# Altium footprint library PCB_ConnectorCable.PcbLib: 60 footprints (part 2 of 4)
Each footprint in its own frame and in the unit in brackets; x right, y up, seen from the top. Pads: shape width x height; smd on the part's side, far side on the other; paste and mask are expansions set on the pad; w line width, h text height; cw(c..) or ccw(c..) is an arc to the next point about the centre after c.
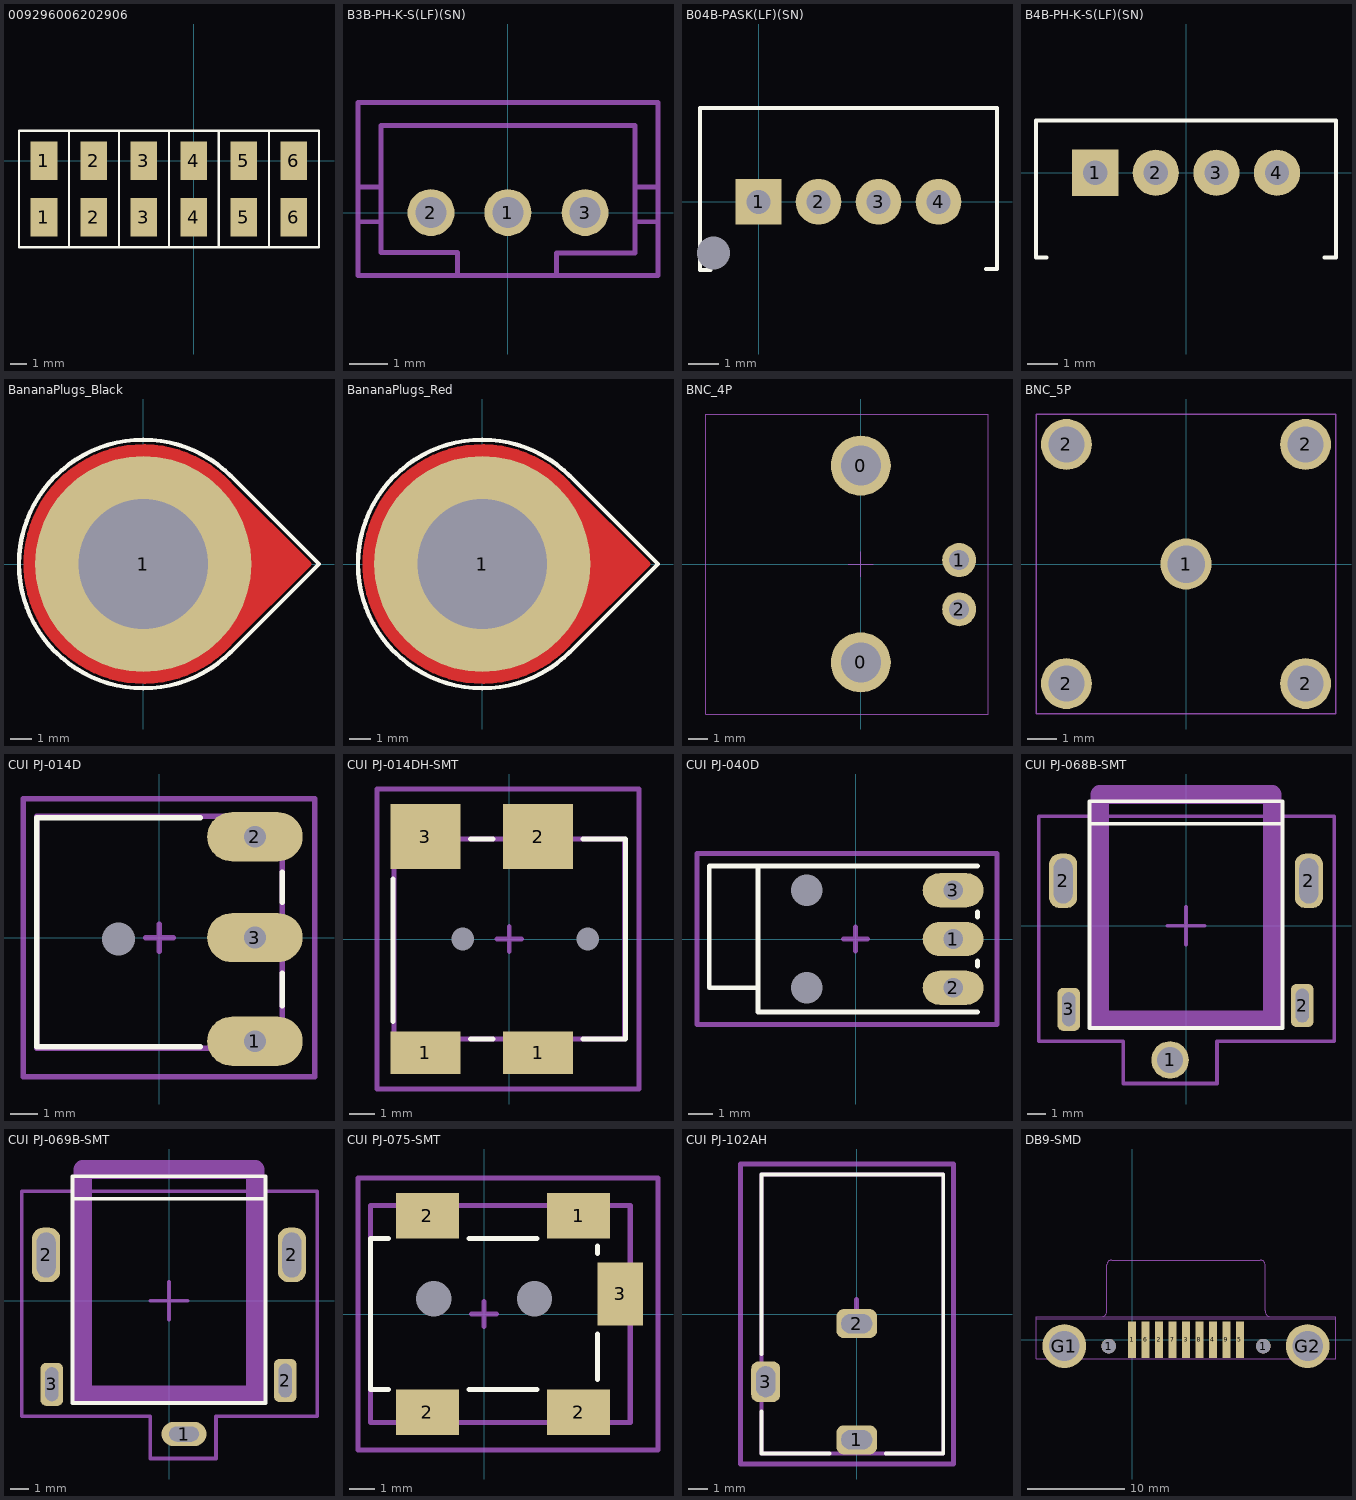
[diagram p1: the footprints below, top view; thin cyan lines are the x and y axes]

## 009296006202906 [mm]
pads (12):
  rect 1.6x2.3 smd: 1(-9,-3.4) 1(-9,0) 2(-6,-3.4) 2(-6,0) 3(-3,-3.4) 3(-3,0) 4(0,-3.4) 4(0,0) 5(3,-3.4) 5(3,0) 6(6,-3.4) 6(6,0)
Top Overlay:
  lines w0.127: 1.497,-5.2 1.497,1.8 ; 4.517,-5.2 4.517,1.724 ; 4.52,-5.2 4.52,1.778 ; -7.5,-5.2 -7.5,1.8 ; -7.5,-5.2 -10.5,-5.2 -10.5,1.8 -7.5,1.8 ; -7.5,-5.2 -7.5,1.8 ; -7.5,-5.2 -4.5,-5.2 ; -7.5,1.8 -4.5,1.8 ; -4.5,-5.2 -4.5,1.8 ; -4.5,-5.2 -4.5,1.8 ; -4.5,-5.2 -1.5,-5.2 ; -4.5,1.8 -1.5,1.8 ; -1.5,-5.2 7.517,-5.2 7.517,1.773 7.517,1.8 -1.5,1.8 ; -1.5,-5.2 -1.5,1.8 ; -1.5,-5.2 -1.5,1.8
3D body "AVX-00-9296-004-202-906_00-9296-004-202-906.SLDPRT": height 2.54, standoff 0.01, extent -4.5,-5.2 7.5,1.8
3D body "AVX-00-9296-004-202-906_00-9296-004-202-906.SLDPRT": height 2.54, standoff 0.01, extent -10.5,-5.2 1.5,1.8

## B3B-PH-K-S(LF)(SN) [mil]
pads (3):
  round 48 / inner round 60 / far side round 48 hole 32: 1(0,0) 2(-78.68,-0.04) 3(78.87,-0.02)
Mechanical 22:
  lines w5: -153.34,-9.38 -129.72,-9.38 ; -153.34,-9.38 -153.34,-64.5 -51.65,-64.5 ; -153.34,-9.38 -153.34,26.05 ; -153.34,26.05 -129.72,26.05 ; -153.34,26.05 -153.34,112.67 153.49,112.67 ; -129.72,-9.38 -129.72,-40.88 -51.65,-40.88 -51.65,-64.5 ; -129.72,-9.38 -129.72,26.05 ; -129.72,26.05 -129.72,89.04 129.89,89 129.89,26.01 ; -51.65,-64.5 50.37,-64.5 ; 50.37,-64.5 50.37,-64.54 153.51,-64.54 153.51,-9.42 ; 50.37,-64.5 50.37,-62.82 49.82,-63.63 49.82,-41.26 129.79,-41.26 129.79,-39.47 129.89,-40.92 129.89,-9.42 ; 129.89,-9.42 153.51,-9.42 ; 129.89,-9.42 129.89,26.01 ; 129.89,26.01 153.51,26.01 ; 153.51,-9.42 153.51,26.01 ; 153.51,26.01 153.51,112.63 ; 153.51,112.63 153.49,111.93 153.49,112.67

## B04B-PASK(LF)(SN) [mm]
pads (5):
  rect 1.524x1.524 hole 0.8: 1(0,0)
  round 1.524 hole 0.8: 2(2,0) 3(4,0) 4(6,0)
  round 0 hole 1.1 unplated: SP(-1.5,-1.7)
Top Overlay:
  lines w0.127: -1.597,-2.269 -1.953,-2.269 -1.953,3.124 7.947,3.124 7.947,-2.235 7.572,-2.235
3D body "B04B-PASK-1.STEP": height 7.71, standoff -2.99, extent -1.997,-2.175 8.003,3.125

## B4B-PH-K-S(LF)(SN) [mm]
pads (4):
  rect 1.524x1.524 hole 0.8: 1(-3,0)
  round 1.524 hole 0.8: 2(-1,0) 3(1,0) 4(3,0)
Top Overlay:
  lines w0.127: -4.597,-2.794 -4.953,-2.794 -4.953,1.727 4.947,1.727 4.947,-2.794 4.572,-2.794
3D body "B4B-PH-K-S.STEP": height 6.01, standoff -3.39, extent -4.925,-2.798 4.975,1.702

## BananaPlugs_Black [mil]
pads (1):
  round 400 hole 240: 1(0,0)
Top Layer:
  region: 158.64,-146.59 148.87,-157.16 126.7,-175.53 102.29,-190.79 76.06,-202.68 48.5,-210.98 20.07,-215.55 -8.71,-216.3 -37.33,-213.24 -65.3,-206.4 -92.11,-195.9 -117.29,-181.95 -140.4,-164.78 -161.02,-144.69 -178.8,-122.04 -193.41,-97.23 -204.61,-70.71 -212.18,-42.93 -216,-14.4 -216,14.4 -212.18,42.93 -204.61,70.71 -193.41,97.23 -178.8,122.04 -161.02,144.69 -140.4,164.78 -117.29,181.95 -92.11,195.9 -65.3,206.4 -37.33,213.24 -8.71,216.3 20.07,215.55 48.5,210.98 76.06,202.68 102.29,190.79 126.7,175.53 148.87,157.16 158.64,146.59 159,146 305,0
  lines w12: 158.64,-146.59 cw(c0,0) 158.64,146.59 ; 159,-146 305,0 159,146
Bottom Layer:
  region: 158.64,-146.59 148.87,-157.16 126.7,-175.53 102.29,-190.79 76.07,-202.68 48.5,-210.98 20.07,-215.55 -8.71,-216.3 -37.33,-213.24 -65.3,-206.4 -92.11,-195.9 -117.29,-181.95 -140.4,-164.78 -161.02,-144.69 -178.8,-122.04 -193.41,-97.23 -204.61,-70.71 -212.18,-42.93 -216,-14.4 -216,14.4 -212.18,42.93 -204.61,70.71 -193.41,97.23 -178.8,122.04 -161.02,144.69 -140.4,164.78 -117.29,181.95 -92.11,195.9 -65.3,206.4 -37.33,213.24 -8.71,216.3 20.07,215.55 48.5,210.98 76.07,202.68 102.29,190.79 126.7,175.53 148.87,157.16 158.64,146.59 159,146 305,0
Top Overlay:
  lines w8: 162.63,-162.63 cw(c0,0) 162.63,162.63 325.27,0 162.63,-162.63
Bottom Overlay:
  lines w8: 162.63,-162.63 cw(c0,0) 162.63,162.63 325.27,0 162.63,-162.63
Top Solder:
  region: 158.64,-146.59 148.87,-157.16 126.7,-175.53 102.29,-190.79 76.07,-202.68 48.5,-210.98 20.07,-215.55 -8.71,-216.3 -37.33,-213.24 -65.3,-206.4 -92.11,-195.9 -117.29,-181.95 -140.4,-164.78 -161.02,-144.69 -178.8,-122.04 -193.41,-97.23 -204.61,-70.71 -212.18,-42.93 -216,-14.4 -216,14.4 -212.18,42.93 -204.61,70.71 -193.41,97.23 -178.8,122.04 -161.02,144.69 -140.4,164.78 -117.29,181.95 -92.11,195.9 -65.3,206.4 -37.33,213.24 -8.71,216.3 20.07,215.55 48.5,210.98 76.07,202.68 102.29,190.79 126.7,175.53 148.87,157.16 158.64,146.59 159,146 305,0
Bottom Solder:
  region: 158.64,-146.59 148.87,-157.16 126.7,-175.53 102.29,-190.79 76.07,-202.68 48.5,-210.98 20.07,-215.55 -8.71,-216.3 -37.33,-213.24 -65.3,-206.4 -92.11,-195.9 -117.29,-181.95 -140.4,-164.78 -161.02,-144.69 -178.8,-122.04 -193.41,-97.23 -204.61,-70.71 -212.18,-42.93 -216,-14.4 -216,14.4 -212.18,42.93 -204.61,70.71 -193.41,97.23 -178.8,122.04 -161.02,144.69 -140.4,164.78 -117.29,181.95 -92.11,195.9 -65.3,206.4 -37.33,213.24 -8.71,216.3 20.07,215.55 48.5,210.98 76.07,202.68 102.29,190.79 126.7,175.53 148.87,157.16 158.64,146.59 159,146 305,0
3D body "User Library-ST-351B V1 - BLACK.STEP": height 326.77, standoff -303.18, extent -222.44,-222.19 456.69,222.19

## BananaPlugs_Red [mil]
pads (1):
  round 400 hole 240: 1(0,0)
Top Layer:
  region: 158.64,-146.59 148.87,-157.16 126.7,-175.53 102.29,-190.79 76.06,-202.68 48.5,-210.98 20.07,-215.55 -8.71,-216.3 -37.33,-213.24 -65.3,-206.4 -92.11,-195.9 -117.29,-181.95 -140.4,-164.78 -161.02,-144.69 -178.8,-122.04 -193.41,-97.23 -204.61,-70.71 -212.18,-42.93 -216,-14.4 -216,14.4 -212.18,42.93 -204.61,70.71 -193.41,97.23 -178.8,122.04 -161.02,144.69 -140.4,164.78 -117.29,181.95 -92.11,195.9 -65.3,206.4 -37.33,213.24 -8.71,216.3 20.07,215.55 48.5,210.98 76.06,202.68 102.29,190.79 126.7,175.53 148.87,157.16 158.64,146.59 159,146 305,0
  lines w12: 158.64,-146.59 cw(c0,0) 158.64,146.59 ; 159,-146 305,0 159,146
Bottom Layer:
  region: 158.64,-146.59 148.87,-157.16 126.7,-175.53 102.29,-190.79 76.07,-202.68 48.5,-210.98 20.07,-215.55 -8.71,-216.3 -37.33,-213.24 -65.3,-206.4 -92.11,-195.9 -117.29,-181.95 -140.4,-164.78 -161.02,-144.69 -178.8,-122.04 -193.41,-97.23 -204.61,-70.71 -212.18,-42.93 -216,-14.4 -216,14.4 -212.18,42.93 -204.61,70.71 -193.41,97.23 -178.8,122.04 -161.02,144.69 -140.4,164.78 -117.29,181.95 -92.11,195.9 -65.3,206.4 -37.33,213.24 -8.71,216.3 20.07,215.55 48.5,210.98 76.07,202.68 102.29,190.79 126.7,175.53 148.87,157.16 158.64,146.59 159,146 305,0
Top Overlay:
  lines w8: 162.63,-162.63 cw(c0,0) 162.63,162.63 325.27,0 162.63,-162.63
Bottom Overlay:
  lines w8: 162.63,-162.63 cw(c0,0) 162.63,162.63 325.27,0 162.63,-162.63
Top Solder:
  region: 158.64,-146.59 148.87,-157.16 126.7,-175.53 102.29,-190.79 76.07,-202.68 48.5,-210.98 20.07,-215.55 -8.71,-216.3 -37.33,-213.24 -65.3,-206.4 -92.11,-195.9 -117.29,-181.95 -140.4,-164.78 -161.02,-144.69 -178.8,-122.04 -193.41,-97.23 -204.61,-70.71 -212.18,-42.93 -216,-14.4 -216,14.4 -212.18,42.93 -204.61,70.71 -193.41,97.23 -178.8,122.04 -161.02,144.69 -140.4,164.78 -117.29,181.95 -92.11,195.9 -65.3,206.4 -37.33,213.24 -8.71,216.3 20.07,215.55 48.5,210.98 76.07,202.68 102.29,190.79 126.7,175.53 148.87,157.16 158.64,146.59 159,146 305,0
Bottom Solder:
  region: 158.64,-146.59 148.87,-157.16 126.7,-175.53 102.29,-190.79 76.07,-202.68 48.5,-210.98 20.07,-215.55 -8.71,-216.3 -37.33,-213.24 -65.3,-206.4 -92.11,-195.9 -117.29,-181.95 -140.4,-164.78 -161.02,-144.69 -178.8,-122.04 -193.41,-97.23 -204.61,-70.71 -212.18,-42.93 -216,-14.4 -216,14.4 -212.18,42.93 -204.61,70.71 -193.41,97.23 -178.8,122.04 -161.02,144.69 -140.4,164.78 -117.29,181.95 -92.11,195.9 -65.3,206.4 -37.33,213.24 -8.71,216.3 20.07,215.55 48.5,210.98 76.07,202.68 102.29,190.79 126.7,175.53 148.87,157.16 158.64,146.59 159,146 305,0
3D body "User Library-ST-351A V1 - RED.STEP": height 326.77, standoff -303.18, extent -222.45,-222.2 456.69,222.18

## BNC_4P [mil]
pads (4):
  round 120 hole 80: 0(0,-196.85) 0(0,196.85)
  round 68 hole 40: 1(196.85,7.87) 2(196.85,-90.55)
Mechanical 13:
  lines w2: -25,0 25,0 ; 0,-25 0,25
T-Component:
  lines w2: -310,-300 255,-300 255,300 -310,300 -310,-300
3D body "User Library-BNC-144.STEP": height 519.2, standoff -161.8, extent -1124.99,-290.5 250.01,290.5

## BNC_5P [mil]
pads (5):
  round 68 hole 50: 1(0,0)
  round 68 hole 48: 2(-159.45,-159.45) 2(-159.45,159.45) 2(159.45,-159.45) 2(159.45,159.45)
T-Component:
  lines w2: -200,-200 200,-200 200,200 -200,200 -200,-200
3D body "User Library-BNC84CT-9000.STEP": height 600.39, standoff -177.17, extent -216.53,-216.53 1043.31,216.54

## CUI PJ-014D [mm]
height 5.5
pads (4):
  oval 3.5x1.8 hole 0.8 square: 1(3.5,-3.8) 2(3.5,3.7) 3(3.5,0)
  round 0 hole 1.2 unplated: M(-1.5,-0.05)
Top Overlay:
  lines w0.2: 1.5,-4 -4.5,-4 -4.5,4.4 1.5,4.4 ; 4.5,-2.5 4.5,-1.3 ; 4.5,1.3 4.5,2.4
Mechanical 1:
  lines w0.2: -4.5,-4.05 -4.5,4.45 4.5,4.45 4.5,-4.05 -4.5,-4.05
Mechanical 15:
  lines w0.2: -0.5,0 0.5,0 ; 0,-0.5 0,0.5 ; -5,-5.1 -5,5.1 5.7,5.1 5.7,-5.1 -5,-5.1
3D body "CUI PJ-014D.STEP": height 5.5, standoff -3.5, extent -4.5,-4.05 4.5,4.45

## CUI PJ-014DH-SMT [mm]
height 5.7
pads (6):
  rect 2.8x1.7 smd: 1(-3.35,-4.55) 1(1.15,-4.55)
  rect 2.8x2.6 smd: 2(1.15,4.1) 3(-3.35,4.1)
  round 0 hole 0.9 unplated: M(-1.85,0) M(3.15,0)
Top Overlay:
  lines w0.2: -4.65,-3.3 -4.65,2.4 ; -1.55,-4 -0.65,-4 ; -1.55,4 -0.65,4 ; 2.95,-4 4.65,-4 4.65,4 2.95,4
Mechanical 1:
  lines w0.2: -4.6,-4 -4.6,4 4.6,4 4.6,-4 -4.6,-4
Mechanical 15:
  lines w0.2: -0.5,0 0.5,0 ; 0,-0.5 0,0.5 ; -5.3,-6 5.2,-6 5.2,6 -5.3,6 -5.3,-6
3D body "CUI PJ-014DH-SMT.STEP": height 5.4, standoff -0.6, extent -4.65,-4.8 4.65,4.8

## CUI PJ-040D [mm]
height 5
pads (5):
  oval 2.5x1.4 hole 0.8 square: 1(4,0) 2(4,-2) 3(4,2)
  round 0 hole 1.3 unplated: M(-2,-2) M(-2,2)
Top Overlay:
  lines w0.2: -4,3 -4,-2 ; 5,-3 -4,-3 -4,-2 ; 5,-1.1 5,-0.9 ; 5,0.9 5,1.1 ; 5,3 -6,3 -6,-2 -4,-2
Mechanical 15:
  lines w0.2: -0.5,0 0.5,0 ; 0,-0.5 0,0.5 ; -6.5,-3.5 5.8,-3.5 5.8,3.5 -6.5,3.5 -6.5,-3.5
3D body "CUI pj-040d.STEP": height 5, standoff -3, extent -6,-3 5,3

## CUI PJ-068B-SMT [mm] "Mid Mount DC Power Jack"
height 5.45
pads (5):
  round 2 hole 1.4 unplated: 1(-0.85,-7.15)
  rrect75% 1.5x2.9 hole 1 slot 2.4 at 90 deg unplated: 2(-6.55,2.4) 2(6.55,2.4)
  rrect50% 1.2x2.3 hole 0.7 slot 1.8 at 90 deg unplated: 2(6.2,-4.25) 3(-6.25,-4.45)
Top Overlay:
  lines w0.2: -5.15,5.45 -5.15,6.65 5.15,6.65 5.15,5.45 ; -5.15,5.45 -5.15,-5.45 5.15,-5.45 5.15,5.45 ; -5.15,5.45 -0.85,5.45 5.15,5.45
Mechanical 15:
  lines w0.2: -1,0 1,0 ; 0,-1 0,1 ; -7.85,-6.15 -7.85,5.85 7.9,5.85 7.9,-6.15 1.65,-6.15 1.65,-8.4 -0.85,-8.4 -3.35,-8.4 -3.35,-6.15 -7.85,-6.15
Mechanical 31:
  lines w0.6: -4.8,-4.5 -4.8,-5.2 -4,-5.2 ; 4,-5.2 4.8,-5.2 4.8,-4.5
  lines w1: -4.6,-5 -4.6,7 4.6,7 4.6,-5 -4.6,-5
3D body "pj-068b-smt.STEP": height 5.45, standoff -3.65, extent -6.55,-7.7 6.55,6.6

## CUI PJ-069B-SMT [mm] "Mid Mount DC Power Jack"
height 2.45
pads (5):
  oval 2.4x1.3 hole 0.8 slot 1.6 at 0 deg unplated: 1(0.8,-7.1)
  rrect75% 1.5x2.9 hole 1 slot 2.4 at 90 deg unplated: 2(-6.55,2.45) 2(6.55,2.45)
  rrect50% 1.2x2.3 hole 0.7 slot 1.8 at 90 deg unplated: 2(6.2,-4.25) 3(-6.25,-4.45)
Top Overlay:
  lines w0.2: -5.15,5.45 -0.85,5.45 5.15,5.45 ; -5.15,5.45 -5.15,-5.45 5.15,-5.45 5.15,5.45 ; -5.15,5.45 -5.15,6.65 5.15,6.65 5.15,5.45
Mechanical 15:
  lines w0.2: -1,0 1,0 ; 0,-1 0,1 ; -7.85,-6.15 -1,-6.15 -1,-8.4 -0.85,-8.4 2.5,-8.4 2.5,-6.15 7.9,-6.15 7.9,5.85 -7.85,5.85 -7.85,-6.15
Mechanical 31:
  lines w0.6: -4.8,-4.5 -4.8,-5.2 -4,-5.2 ; 4,-5.2 4.8,-5.2 4.8,-4.5
  lines w1: -4.6,-5 4.6,-5 4.6,7 -4.6,7 -4.6,-5
3D body "PJ-069B-SMT.STEP": height 2.55, standoff -6.45, extent -6.55,-7.35 6.55,6.6

## CUI PJ-075-SMT [mm]
height 4.8
pads (7):
  rect 2.5x1.8 smd: 1(3.75,3.9) 2(-2.25,-3.9) 2(-2.25,3.9) 2(3.75,-3.9)
  rect 1.8x2.5 smd: 3(5.4,0.8)
  round 0 hole 1.4 unplated: M(-2,0.6) M(2,0.6)
Top Overlay:
  lines w0.2: -3.8,-3 -4.5,-3 -4.5,3 -3.8,3 ; -0.6,-3 2.1,-3 ; -0.6,3 2.1,3 ; 4.5,-2.6 4.5,-0.8 ; 4.5,2.4 4.5,2.7
Mechanical 1:
  lines w0.2: -4.5,-4.3 -4.5,4.3 5.8,4.3 5.8,-4.3 -4.5,-4.3
Mechanical 31:
  lines w0.2: -0.5,0 0.5,0 ; 0,-0.5 0,0.5 ; -5,-5.4 6.9,-5.4 6.9,5.4 -5,5.4 -5,-5.4
3D body "CUI PJ-075DH-SMT.STEP": height 4.8, standoff -0.4, extent -4.5,-4.3 5.8,4.3

## CUI PJ-102AH [mm] "DC Barrel Jack W/ Switch 2.0x5.5"
height 11
pads (3):
  rrect50% 2.1x1.5 hole 1 slot 1.6 at 0 deg: 1(0,-6.5) 2(0,-0.5)
  rrect50% 1.5x2.1 hole 1 slot 1.6 at 90 deg: 3(-4.7,-3.5)
Top Overlay:
  lines w0.2: -4.925,-5.025 -4.925,-7.2 -1.4,-7.2 ; -4.925,-2.075 -4.925,7.2 4.475,7.2 4.475,-6.525 4.475,-7.2 1.5,-7.2
Mechanical 1:
  lines w0.2: -4.925,-7.2 4.475,-7.2 4.475,7.2 -4.925,7.2 -4.925,-7.2
Mechanical 15:
  lines w0.254: -0.75,0 0,0 ; 0,-0.75 0,0 ; 0,0.75 0,0 ; 0.75,0 0,0 ; -6,-7.75 5,-7.75 5,7.75 -6,7.75 -6,-3.5 -6,-7.75
3D body "CUI-PJ-102AH.step": height 11, standoff -3.5, extent -4.925,-7.2 4.475,7.2

## DB9-SMD [mm]
pads (13):
  round 1.5 hole 1.5: 1(-2.41,-0.65) 1(13.49,-0.65)
  rect 0.8x3.7 smd: 1(0,0) 2(2.77,0) 3(5.54,0) 4(8.31,0) 5(11.08,0) 6(1.385,0) 7(4.155,0) 8(6.925,0) 9(9.695,0)
  round 4.5 hole 3.1: G1(-6.955,-0.65) G2(18.035,-0.65)
Mechanical 1:
  lines w0.127: -9.865,2.15 20.945,2.15
Mechanical 2:
  lines w0.127: -3.223,2.349 ccw(c-3.223,2.984) -2.588,2.984 -2.588,7.683 cw(c-2.08,7.683) -2.08,8.191 13.16,8.191 cw(c13.16,7.683) 13.668,7.683 13.668,2.984 ccw(c14.303,2.984) 14.303,2.349 ; -9.865,-1.95 20.945,-1.95 20.945,2.35 -9.865,2.35 -9.865,-1.95
3D body "190-009-263.STEP": height 10.81, standoff -3.59, extent -9.906,-1.753 20.955,8.56